# EAGLE library part B?56-12*WA (library 3DIG_7SEG)
9.2mm THREE DIGIT NUMERIC DISPLAY Source: http://www.kosmodrom.com.ua/pdf/E30361-LI.pdf
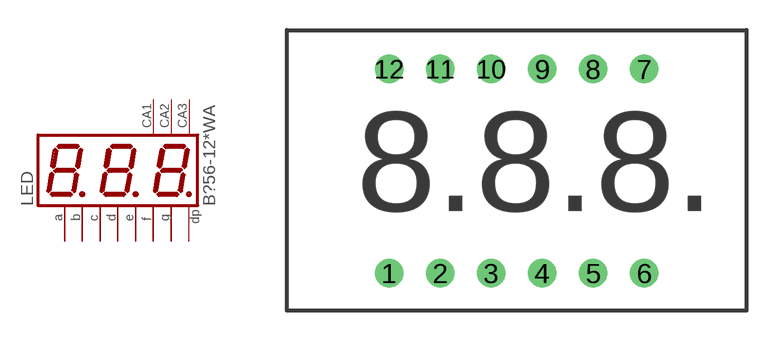
[diagram p4: symbol with the pads of BX56-12; footprint BX56-12]

Designator prefix LED

## BA56-12EWA (OC_FARNELL: unknown; OC_NEWARK: unknown), BA56-12GWA (OC_FARNELL: unknown; OC_NEWARK: unknown), BA56-12SRWA (OC_FARNELL: unknown; OC_NEWARK: unknown), BA56-12YWA (OC_FARNELL: unknown; OC_NEWARK: unknown)  [BX56-12]
1  E  pas
2  D  pas
3  DP  pas
4  C  pas
5  G  pas
7  B  pas
8  CA  pas
9  CA  pas
10  F  pas
11  A  pas
12  CA  pas

## BC56-12EWA (OC_FARNELL: unknown; OC_NEWARK: unknown), BC56-12GWA (OC_FARNELL: unknown; OC_NEWARK: unknown), BC56-12SRWA (OC_FARNELL: unknown; OC_NEWARK: unknown), BC56-12YWA (OC_FARNELL: unknown; OC_NEWARK: unknown)  [BX56-12]
Pads as for BX56-12

## Footprint BX56-12 (pad centres in mm)
14.22mm (0.56INCH) THREE DIGIT NUMERIC DISPLAY Source: http://www.kingbright.com .. BA56-11EWA(Ver1189474895.pdf
drill 0.8 pad 1.422: 1 -6.35,-5.08; 2 -3.81,-5.08; 3 -1.27,-5.08; 4 1.27,-5.08; 5 3.81,-5.08; 6 6.35,-5.08; 7 6.35,5.08; 8 3.81,5.08; 9 1.27,5.08; 10 -1.27,5.08; 11 -3.81,5.08; 12 -6.35,5.08